# EAGLE library part TL081HIDR (library TL081HIDR)
Operational Amplifiers - Op Amps Single-channel high-speed standard op amp Source: Datasheet <https://www.ti.com/lit/ds/symlink/tl081h.pdf?ts=1631512685982&ref_url=https%3A%2F%2Fcomponentsearchengine.com%2F>
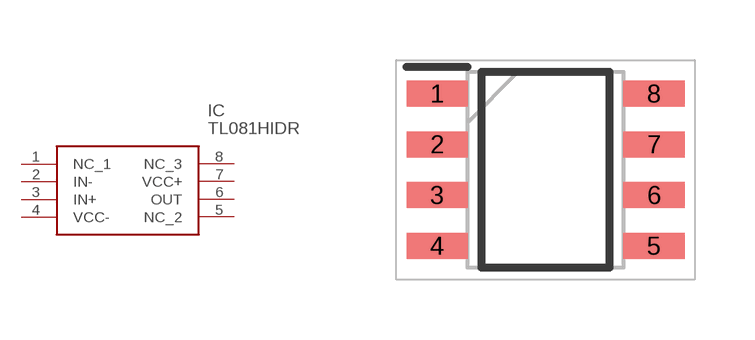
[diagram p0: symbol with the pads of SOIC127P600X175-8N; footprint SOIC127P600X175-8N]

Designator prefix IC

## TL081HIDR (Description: Operational Amplifiers - Op Amps Single-channel high-speed standard op amp; Height: 1.75mm; Manufacturer_Name: Texas Instruments; Manufacturer_Part_Number: TL081HIDR; Mouser_Part_Number: 595-TL081HIDR; Mouser_Price-Stock: https://www.mouser.co.uk/ProductDetail/Texas-Instruments/TL081HIDR?qs=pBJMDPsKWf2IEA%252Bv86wIaw%3D%3D)  [SOIC127P600X175-8N]
1  NC_1
2  IN-
3  IN+
4  VCC-
5  NC_2
6  OUT
7  VCC+
8  NC_3

## Footprint SOIC127P600X175-8N (pad centres in mm)
D(R-PDSO-G)
smd 1.528 x 0.65: 1 -2.711,1.905; 2 -2.711,0.635; 3 -2.711,-0.635; 4 -2.711,-1.905; 5 2.711,-1.905; 6 2.711,-0.635; 7 2.711,0.635; 8 2.711,1.905